# EAGLE library part 2023960607 (library ic-mhm)
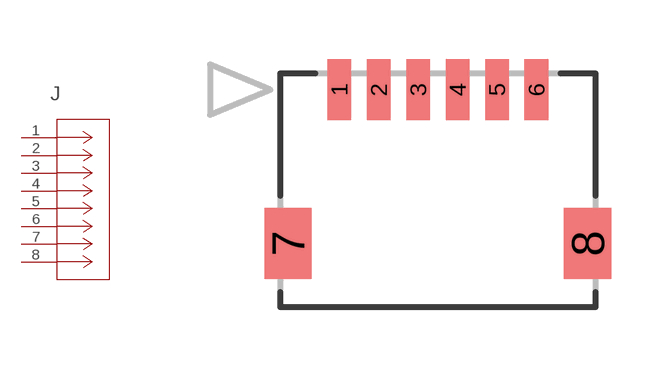
[diagram p6: symbol with the pads of CON_2023960607; footprint CON_2023960607]

Designator prefix J

## 2023960607 (COPYRIGHT: Copyright (C) 2021 Ultra Librarian. All rights reserved.; DIGI-KEY_PART_NUMBER_1: 2023960607-ND; MANUFACTURER_PART_NUMBER: 2023960607; MFR_NAME: Molex Connector Corporation)  [CON_2023960607]
1  1  pas
2  2  pas
3  3  pas
4  4  pas
5  5  pas
6  6  pas
7  7  pas
8  8  pas

## Footprint CON_2023960607 (pad centres in mm)
smd 0.6 x 1.55: 1 0,0; 2 1,0; 3 2,0; 4 3,0; 5 4,0; 6 5,0
smd 1.2 x 1.8: 7 -1.3,-3.9; 8 6.3,-3.9